# Altium footprint library ptitteam_pcb.PcbLib: 43 footprints (part 3 of 3)
Each footprint in its own frame and in the unit in brackets; x right, y up, seen from the top. Pads: shape width x height; smd on the part's side, far side on the other; paste and mask are expansions set on the pad; w line width, h text height; cw(c..) or ccw(c..) is an arc to the next point about the centre after c.
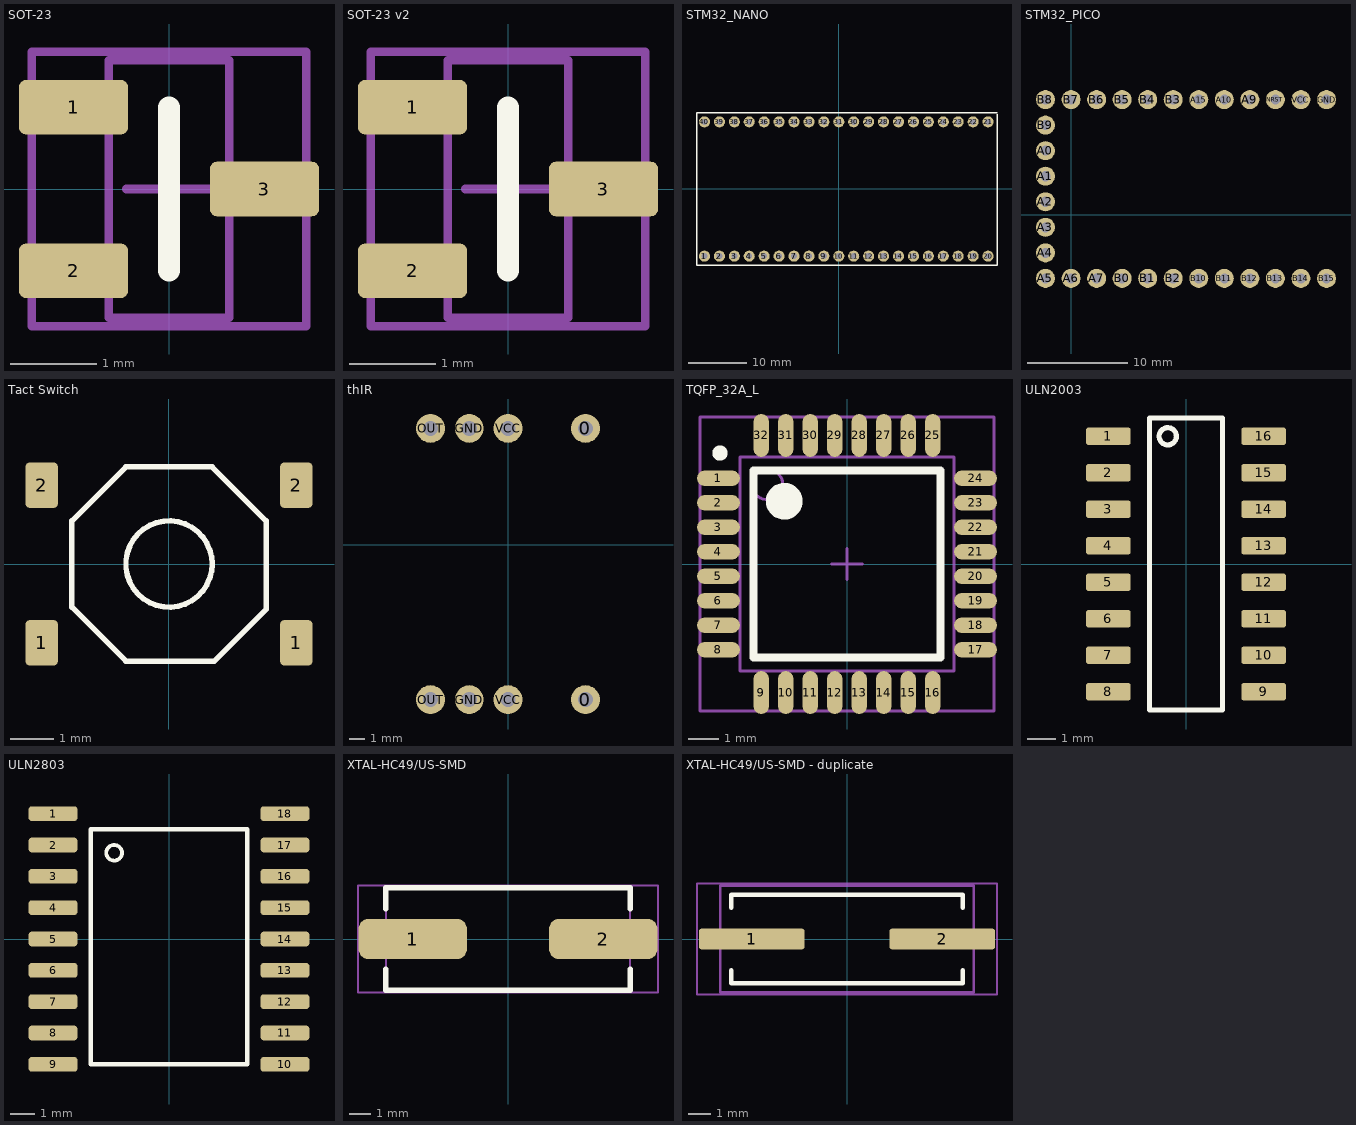
[diagram p2: the footprints below, top view; thin cyan lines are the x and y axes]

## SOT-23 [mil] "SOT23, 3-Leads, Body 2.9x1.3mm, Pitch 0.95mm, Lead Span 2.5mm, IPC High Density"
height 43.31
pads (3):
  rrect25% 50x25 smd: 1(-43.75,37.5) 2(-43.75,-37.5) 3(43.75,0)
Top Overlay:
  lines w10: 0,-37.5 0,37.5
Mechanical 13:
  lines w3.94: -27.56,-59.06 -27.56,59.06 27.56,59.06 27.56,-59.06 -27.56,-59.06
Mechanical 15:
  lines w3.94: -19.68,0 19.69,0 ; 0,-19.68 0,19.69 ; -62.99,-62.99 -62.99,62.99 62.99,62.99 62.99,-62.99 -62.99,-62.99
3D body: height 43.31, standoff 0, extent -27.56,-59.06 27.56,59.06

## SOT-23 v2 [mil]
pads (3):
  rrect25% 50x25 smd: 1(-43.75,37.5) 2(-43.75,-37.5) 3(43.75,0)
Top Overlay:
  lines w10: 0,-37.5 0,37.5
Mechanical 13:
  lines w3.94: -27.56,-59.05 27.56,-59.05 27.56,59.06 -27.56,59.06 -27.56,-59.05
Mechanical 15:
  lines w3.94: -19.68,0 19.69,0 ; 0,-19.68 0,19.69 ; -62.99,-62.99 63,-62.99 63,63 -62.99,63 -62.99,-62.99
3D body: height 43.31, standoff 0, extent -27.56,-59.05 27.56,59.06

## STM32_NANO [mm]
pads (40):
  round 1.886 hole 1: 1(-22.86,-11.43) 2(-20.32,-11.43) 3(-17.78,-11.43) 4(-15.24,-11.43) 5(-12.7,-11.43) 6(-10.16,-11.43) 7(-7.62,-11.43) 8(-5.08,-11.43) 9(-2.54,-11.43) 10(0,-11.43) 11(2.54,-11.43) 12(5.08,-11.43) 13(7.62,-11.43) 14(10.16,-11.43) 15(12.7,-11.43) 16(15.24,-11.43) 17(17.78,-11.43) 18(20.32,-11.43) 19(22.86,-11.43) 20(25.4,-11.43) 21(25.4,11.43) 22(22.86,11.43) 23(20.32,11.43) 24(17.78,11.43) 25(15.24,11.43) 26(12.7,11.43) 27(10.16,11.43) 28(7.62,11.43) 29(5.08,11.43) 30(2.54,11.43) 31(0,11.43) 32(-2.54,11.43) 33(-5.08,11.43) 34(-7.62,11.43) 35(-10.16,11.43) 36(-12.7,11.43) 37(-15.24,11.43) 38(-17.78,11.43) 39(-20.32,11.43) 40(-22.86,11.43)
Top Overlay:
  lines w0.254: 26.924,12.7 26.924,-12.954 -24.13,-12.954 -24.13,12.954 26.924,12.954
3D body: height 8.45, standoff 3.55, extent -32.35,-7.52 -21.21,7.52
3D body: height 8.5, standoff 6, extent -24.384,-12.954 26.924,12.954
3D body: height 9, standoff -2.2, extent -24.13,10.18 -11.53,12.68
3D body: height 9, standoff -2.2, extent -11.43,10.18 1.17,12.68
3D body: height 9, standoff -2.2, extent 1.27,10.18 13.87,12.68
3D body: height 9, standoff -2.2, extent 13.97,10.18 26.57,12.68
3D body: height 9, standoff -2.2, extent 13.97,-12.68 26.57,-10.18
3D body: height 9, standoff -2.2, extent 1.27,-12.68 13.87,-10.18
3D body: height 9, standoff -2.2, extent -11.43,-12.68 1.17,-10.18
3D body: height 9, standoff -2.2, extent -24.13,-12.68 -11.53,-10.18
3D body: height 9.75, standoff 8, extent -3.752,-4.514 5.276,4.514
3D body: height 12.3, standoff 8, extent -10.543,-6.4 -5.713,6.4
3D body: height 10, standoff 8, extent -15.82,-3.05 -12.12,3.05
3D body: height 10, standoff 8, extent -19.884,-3.05 -16.184,3.05
3D body: height 9.65, standoff 8, extent 7.926,-3.543 14.426,3.544
3D body: height 13.14, standoff 8.05, extent 17.216,-4.95 26.416,4.95
3D body: height 9.3, standoff 7.7, extent -10.956,-12.192 -9.364,-10.599
3D body: height 9.3, standoff 7.7, extent -23.021,-9.652 -21.429,-8.059
3D body: height 9.3, standoff 7.7, extent -23.021,-7.112 -21.429,-5.519
3D body: height 9.3, standoff 7.7, extent -23.021,-4.572 -21.429,-2.979
3D body: height 9.3, standoff 7.7, extent -23.021,-2.032 -21.429,-0.439
3D body: height 9.3, standoff 7.7, extent -23.021,0.508 -21.429,2.101
3D body: height 9.3, standoff 7.7, extent -23.021,3.048 -21.429,4.641
3D body: height 9.3, standoff 7.7, extent -23.021,8.128 -21.429,9.721
3D body: height 9.3, standoff 7.7, extent -23.021,5.588 -21.429,7.181
3D body: height 9.3, standoff 7.7, extent -23.656,10.668 -22.064,12.261
3D body: height 9.3, standoff 7.7, extent -21.116,10.668 -19.524,12.261
3D body: height 9.3, standoff 7.7, extent -18.576,10.668 -16.984,12.261
3D body: height 9.3, standoff 7.7, extent -16.036,10.668 -14.444,12.261
3D body: height 9.3, standoff 7.7, extent -13.496,10.668 -11.904,12.261
3D body: height 9.3, standoff 7.7, extent -10.956,10.668 -9.364,12.261
3D body: height 9.3, standoff 7.7, extent -8.416,10.668 -6.824,12.261
3D body: height 9.3, standoff 7.7, extent -5.876,10.668 -4.284,12.261
3D body: height 9.3, standoff 7.7, extent -3.336,10.668 -1.744,12.261
3D body: height 9.3, standoff 7.7, extent -0.796,10.668 0.796,12.261
3D body: height 9.3, standoff 7.7, extent 1.744,10.668 3.336,12.261
3D body: height 9.3, standoff 7.7, extent 4.284,10.668 5.876,12.261
3D body: height 9.3, standoff 7.7, extent 6.824,10.668 8.416,12.261
3D body: height 9.3, standoff 7.7, extent 9.364,10.668 10.956,12.261
3D body: height 9.3, standoff 7.7, extent 11.904,10.668 13.496,12.261
3D body: height 9.3, standoff 7.7, extent 14.444,10.668 16.036,12.261
3D body: height 9.3, standoff 7.7, extent 16.984,10.668 18.576,12.261
3D body: height 9.3, standoff 7.7, extent 19.524,10.668 21.116,12.261
3D body: height 9.3, standoff 7.7, extent 22.064,10.668 23.656,12.261
3D body: height 9.3, standoff 7.7, extent 24.604,10.668 26.196,12.261
3D body: height 9.3, standoff 7.7, extent 24.604,-12.192 26.196,-10.599
3D body: height 9.3, standoff 7.7, extent 22.064,-12.192 23.656,-10.599
3D body: height 9.3, standoff 7.7, extent 19.524,-12.192 21.116,-10.599
3D body: height 9.3, standoff 7.7, extent 16.984,-12.192 18.576,-10.599
3D body: height 9.3, standoff 7.7, extent 14.444,-12.192 16.036,-10.599
3D body: height 9.3, standoff 7.7, extent 11.904,-12.192 13.496,-10.599
3D body: height 9.3, standoff 7.7, extent 9.364,-12.192 10.956,-10.599
3D body: height 9.3, standoff 7.7, extent 6.824,-12.192 8.416,-10.599
3D body: height 9.3, standoff 7.7, extent 4.284,-12.192 5.876,-10.599
3D body: height 9.3, standoff 7.7, extent 1.744,-12.192 3.336,-10.599
3D body: height 9.3, standoff 7.7, extent -0.796,-12.192 0.796,-10.599
3D body: height 9.3, standoff 7.7, extent -3.336,-12.192 -1.744,-10.599
3D body: height 9.3, standoff 7.7, extent -5.876,-12.192 -4.284,-10.599
3D body: height 9.3, standoff 7.7, extent -8.416,-12.192 -6.824,-10.599
3D body: height 9.3, standoff 7.7, extent -13.496,-12.192 -11.904,-10.599
3D body: height 9.3, standoff 7.7, extent -16.036,-12.192 -14.444,-10.599
3D body: height 9.3, standoff 7.7, extent -18.576,-12.192 -16.984,-10.599
3D body: height 9.3, standoff 7.7, extent -21.116,-12.192 -19.524,-10.599
3D body: height 9.3, standoff 7.7, extent -23.656,-12.192 -22.064,-10.599
3D body: height 11.5, standoff 9.5, extent -14.57,-1.3 -13.37,1.3
3D body: height 11, standoff 7.5, extent -15.12,-2.15 -12.82,2.15
3D body: height 10, standoff 9.5, extent -14.316,-3.677 -13.716,-2.927
3D body: height 10, standoff 9.5, extent -14.27,2.927 -13.67,3.677
3D body: height 10, standoff 9.5, extent -18.334,2.927 -17.734,3.677
3D body: height 10, standoff 9.5, extent -18.38,-3.677 -17.78,-2.927
3D body: height 10.5, standoff 8.5, extent -19.184,-2.15 -16.884,2.15
3D body: height 11.5, standoff 9.5, extent -18.634,-1.3 -17.434,1.3

## STM32_PICO [mm]
pads (30):
  round 1.886 hole 1: A0(-2.54,6.35) A1(-2.54,3.81) A2(-2.54,1.27) A3(-2.54,-1.27) A4(-2.54,-3.81) A5(-2.54,-6.35) A6(0,-6.35) A7(2.54,-6.35) A9(17.78,11.43) A10(15.24,11.43) A15(12.7,11.43) B0(5.08,-6.35) B1(7.62,-6.35) B2(10.16,-6.35) B3(10.16,11.43) B4(7.62,11.43) B5(5.08,11.43) B6(2.54,11.43) B7(0,11.43) B8(-2.54,11.43) B9(-2.54,8.89) B10(12.7,-6.35) B11(15.24,-6.35) B12(17.78,-6.35) B13(20.32,-6.35) B14(22.86,-6.35) B15(25.4,-6.35) GND(25.4,11.43) NRST(20.32,11.43) VCC(22.86,11.43)
3D body: height 1.7, standoff -9.5, extent -3.79,-5.08 -1.29,10.06
3D body: height 12.3, standoff 8, extent -1.02,-3.86 3.81,8.94
3D body: height 8.5, standoff 6, extent -3.81,-7.62 26.67,12.7
3D body: height 9.75, standoff 8, extent 4.942,-1.974 13.97,7.054
3D body: height 13.14, standoff 8.05, extent 17.47,-2.41 26.67,7.49
3D body: height 1.7, standoff -9.5, extent -3.81,-7.6 11.33,-5.1
3D body: height 1.7, standoff -9.5, extent 11.48,-7.62 26.62,-5.12
3D body: height 1.7, standoff -9.5, extent 11.48,10.16 26.62,12.66
3D body: height 1.7, standoff -9.5, extent -3.76,10.16 11.38,12.66
3D body: height 9.3, standoff 7.7, extent -3.371,-4.606 -1.778,-3.014
3D body: height 9.3, standoff 7.7, extent -3.371,-2.066 -1.778,-0.474
3D body: height 9.3, standoff 7.7, extent -3.371,0.474 -1.778,2.066
3D body: height 9.3, standoff 7.7, extent -3.371,3.014 -1.778,4.606
3D body: height 9.3, standoff 7.7, extent -3.371,5.554 -1.778,7.146
3D body: height 9.3, standoff 7.7, extent -3.371,8.094 -1.778,9.686
3D body: height 9.3, standoff 7.7, extent -3.336,10.668 -1.744,12.261
3D body: height 9.3, standoff 7.7, extent -0.796,10.668 0.796,12.261
3D body: height 9.3, standoff 7.7, extent 1.744,10.668 3.336,12.261
3D body: height 9.3, standoff 7.7, extent 4.284,10.668 5.876,12.261
3D body: height 9.3, standoff 7.7, extent 6.824,10.668 8.416,12.261
3D body: height 9.3, standoff 7.7, extent 9.364,10.668 10.956,12.261
3D body: height 9.3, standoff 7.7, extent 11.904,10.668 13.496,12.261
3D body: height 9.3, standoff 7.7, extent 14.444,10.668 16.036,12.261
3D body: height 9.3, standoff 7.7, extent 16.984,10.668 18.576,12.261
3D body: height 9.3, standoff 7.7, extent 19.524,10.668 21.116,12.261
3D body: height 9.3, standoff 7.7, extent 22.064,10.668 23.656,12.261
3D body: height 9.3, standoff 7.7, extent 24.604,10.668 26.196,12.261
3D body: height 9.3, standoff 7.7, extent 24.604,-7.112 26.196,-5.519
3D body: height 9.3, standoff 7.7, extent 22.064,-7.112 23.656,-5.519
3D body: height 9.3, standoff 7.7, extent 19.524,-7.112 21.116,-5.519
3D body: height 9.3, standoff 7.7, extent 16.984,-7.112 18.576,-5.519
3D body: height 9.3, standoff 7.7, extent 14.444,-7.112 16.036,-5.519
3D body: height 9.3, standoff 7.7, extent 11.904,-7.112 13.496,-5.519
3D body: height 9.3, standoff 7.7, extent 9.364,-7.112 10.956,-5.519
3D body: height 9.3, standoff 7.7, extent 6.824,-7.112 8.416,-5.519
3D body: height 9.3, standoff 7.7, extent 4.284,-7.112 5.876,-5.519
3D body: height 9.3, standoff 7.7, extent 1.744,-7.112 3.336,-5.519
3D body: height 9.3, standoff 7.7, extent -0.796,-7.112 0.796,-5.519
3D body: height 9.3, standoff 7.7, extent -3.336,-7.112 -1.744,-5.519
3D body: height 8.62, standoff 7, extent 23.241,8.001 25.012,9.775
3D body: height 8.64, standoff 7, extent 23.622,8.382 24.634,9.396
3D body: height 8.62, standoff 7, extent 20.701,8.001 22.472,9.775
3D body: height 8.64, standoff 7, extent 21.082,8.382 22.094,9.396
3D body: height 8.62, standoff 7, extent 18.161,8.001 19.932,9.775
3D body: height 8.64, standoff 7, extent 18.542,8.382 19.554,9.396
3D body: height 8.62, standoff 7, extent 15.621,8.001 17.392,9.775
3D body: height 8.64, standoff 7, extent 16.002,8.382 17.014,9.396
3D body: height 8.62, standoff 7, extent 13.081,8.001 14.852,9.775
3D body: height 8.64, standoff 7, extent 13.462,8.382 14.474,9.396

## Tact Switch [mm] "Tact Switch waterproof Rohs 5.1x5.1x1.5m"
pads (4):
  rrect25% 0.75x1.05 smd: 1(-2.95,-1.825) 1(2.95,-1.825) 2(-2.95,1.825) 2(2.95,1.825)
Top Overlay:
  circle w0.127: c0,0 r1
  lines w0.127: -2.25,-1 -2.25,1 -1,2.25 1,2.25 2.25,1 2.25,-1.05 1.05,-2.25 -1,-2.25 -2.25,-1
3D body: height 1.5, standoff 0, extent -0.996,-1 0.996,0.996
3D body: height 1, standoff 0.6, extent -2,-2 2,2
3D body: height 0.7, standoff 0, extent -2.5,-2.5 2.5,2.5

## thIR [mm]
pads (8):
  round 1.886 hole 1: 0(5.08,-10.16) 0(5.08,7.62) GND(-2.54,-10.16) GND(-2.54,7.62) OUT(-5.08,-10.16) OUT(-5.08,7.62) VCC(0,-10.16) VCC(0,7.62)
3D body: height 13.5, standoff 10.5, extent -1.484,-3.399 1.5,-0.411
3D body: height 11.5, standoff 10.3, extent 1.651,-6.604 2.159,-4.953
3D body: height 11.5, standoff 10.3, extent -0.254,-6.604 0.254,-4.953
3D body: height 11.5, standoff 10.3, extent -2.159,-6.604 -1.651,-4.953
3D body: height 12.5, standoff 10.5, extent -2.413,-4.953 2.413,1.143
3D body: height 10.5, standoff 9.5, extent -2.54,-5.08 2.54,1.27
3D body: height 11.3, standoff 8.5, extent 1.409,-7.484 2.405,-6.486
3D body: height 11.3, standoff 8.5, extent -0.496,-7.484 0.5,-6.486
3D body: height 11.3, standoff 8.5, extent -2.401,-7.484 -1.405,-6.486
3D body: height 8.5, standoff 6, extent -6.35,-11.41 6.25,8.87
3D body: height 9, standoff -2.2, extent -6.35,-11.41 6.25,-8.91
3D body: height 9, standoff -2.2, extent -6.35,6.37 6.25,8.87
3D body: height 9.3, standoff 7.7, extent -5.876,-10.922 -4.284,-9.329
3D body: height 9.3, standoff 7.7, extent -3.336,-10.922 -1.744,-9.329
3D body: height 9.3, standoff 7.7, extent -0.796,-10.922 0.796,-9.329
3D body: height 9.3, standoff 7.7, extent 4.284,-10.922 5.876,-9.329
3D body: height 9.3, standoff 7.7, extent 1.744,-10.922 3.336,-9.329
3D body: height 9.3, standoff 7.7, extent 4.284,6.858 5.876,8.451
3D body: height 9.3, standoff 7.7, extent 1.744,6.858 3.336,8.451
3D body: height 9.3, standoff 7.7, extent -0.796,6.858 0.796,8.451
3D body: height 9.3, standoff 7.7, extent -3.336,6.858 -1.744,8.451
3D body: height 9.3, standoff 7.7, extent -5.876,6.858 -4.284,8.451

## TQFP_32A_L [mm] "Thin QFP, 32-Leads, Body 7x7mm, Pitch 0.8mm, IPC High Density"
height 1.2
pads (32):
  oval 1.4x0.5 smd: 1(-4.2,2.8) 2(-4.2,2) 3(-4.2,1.2) 4(-4.2,0.4) 5(-4.2,-0.4) 6(-4.2,-1.2) 7(-4.2,-2) 8(-4.2,-2.8) 17(4.2,-2.8) 18(4.2,-2) 19(4.2,-1.2) 20(4.2,-0.4) 21(4.2,0.4) 22(4.2,1.2) 23(4.2,2) 24(4.2,2.8)
  oval 0.5x1.4 smd: 9(-2.8,-4.2) 10(-2,-4.2) 11(-1.2,-4.2) 12(-0.4,-4.2) 13(0.4,-4.2) 14(1.2,-4.2) 15(2,-4.2) 16(2.8,-4.2) 25(2.8,4.2) 26(2,4.2) 27(1.2,4.2) 28(0.4,4.2) 29(-0.4,4.2) 30(-1.2,4.2) 31(-2,4.2) 32(-2.8,4.2)
Top Overlay:
  circle w0.25: c-4.15,3.625 r0.125
  circle w0.6: c-2.05,2.05 r0.3
  lines w0.254: -3.05,-3.05 -3.05,3.05 3.05,3.05 3.05,-3.05 -3.05,-3.05
Mechanical 1:
  lines w0.1: -3.5,-3.5 -3.5,3.5 3.5,3.5 3.5,-3.5 -3.5,-3.5
Mechanical 13:
  circle w0.1: c-2.6,2.6 r0.5
Mechanical 15:
  lines w0.1: -0.5,0 0.5,0 ; 0,-0.5 0,0.5 ; -4.8,-4.8 -4.8,4.8 4.8,4.8 4.8,-4.8 -4.8,-4.8
3D body: height 0.15, standoff 0, extent -0.575,3.925 -0.225,4.5
3D body: height 0.6, standoff 0.45, extent -0.575,3.5 -0.225,4.075
3D body: height 0.5, standoff 0, extent -0.575,3.925 -0.225,4.075
3D body: height 0.5, standoff 0, extent -1.375,3.925 -1.025,4.075
3D body: height 0.6, standoff 0.45, extent -1.375,3.5 -1.025,4.075
3D body: height 0.15, standoff 0, extent -1.375,3.925 -1.025,4.5
3D body: height 0.5, standoff 0, extent -2.175,3.925 -1.825,4.075
3D body: height 0.6, standoff 0.45, extent -2.175,3.5 -1.825,4.075
3D body: height 0.15, standoff 0, extent -2.175,3.925 -1.825,4.5
3D body: height 0.5, standoff 0, extent -2.975,3.925 -2.625,4.075
3D body: height 0.6, standoff 0.45, extent -2.975,3.5 -2.625,4.075
3D body: height 0.15, standoff 0, extent -2.975,3.925 -2.625,4.5
3D body: height 0.15, standoff 0, extent 2.625,3.925 2.975,4.5
3D body: height 0.6, standoff 0.45, extent 2.625,3.5 2.975,4.075
3D body: height 0.5, standoff 0, extent 2.625,3.925 2.975,4.075
3D body: height 0.5, standoff 0, extent 1.825,3.925 2.175,4.075
3D body: height 0.6, standoff 0.45, extent 1.825,3.5 2.175,4.075
3D body: height 0.15, standoff 0, extent 1.825,3.925 2.175,4.5
3D body: height 0.5, standoff 0, extent 1.025,3.925 1.375,4.075
3D body: height 0.6, standoff 0.45, extent 1.025,3.5 1.375,4.075
3D body: height 0.15, standoff 0, extent 1.025,3.925 1.375,4.5
3D body: height 0.5, standoff 0, extent 0.225,3.925 0.575,4.075
3D body: height 0.6, standoff 0.45, extent 0.225,3.5 0.575,4.075
3D body: height 0.15, standoff 0, extent 0.225,3.925 0.575,4.5
3D body: height 0.15, standoff 0, extent 3.925,0.225 4.5,0.575
3D body: height 0.6, standoff 0.45, extent 3.5,0.225 4.075,0.575
3D body: height 0.5, standoff 0, extent 3.925,0.225 4.075,0.575
3D body: height 0.5, standoff 0, extent 3.925,1.025 4.075,1.375
3D body: height 0.6, standoff 0.45, extent 3.5,1.025 4.075,1.375
3D body: height 0.15, standoff 0, extent 3.925,1.025 4.5,1.375
3D body: height 0.5, standoff 0, extent 3.925,1.825 4.075,2.175
3D body: height 0.6, standoff 0.45, extent 3.5,1.825 4.075,2.175
3D body: height 0.15, standoff 0, extent 3.925,1.825 4.5,2.175
3D body: height 0.5, standoff 0, extent 3.925,2.625 4.075,2.975
3D body: height 0.6, standoff 0.45, extent 3.5,2.625 4.075,2.975
3D body: height 0.15, standoff 0, extent 3.925,2.625 4.5,2.975
3D body: height 0.15, standoff 0, extent 3.925,-2.975 4.5,-2.625
3D body: height 0.6, standoff 0.45, extent 3.5,-2.975 4.075,-2.625
3D body: height 0.5, standoff 0, extent 3.925,-2.975 4.075,-2.625
3D body: height 0.5, standoff 0, extent 3.925,-2.175 4.075,-1.825
3D body: height 0.6, standoff 0.45, extent 3.5,-2.175 4.075,-1.825
3D body: height 0.15, standoff 0, extent 3.925,-2.175 4.5,-1.825
3D body: height 0.5, standoff 0, extent 3.925,-1.375 4.075,-1.025
3D body: height 0.6, standoff 0.45, extent 3.5,-1.375 4.075,-1.025
3D body: height 0.15, standoff 0, extent 3.925,-1.375 4.5,-1.025
3D body: height 0.5, standoff 0, extent 3.925,-0.575 4.075,-0.225
3D body: height 0.6, standoff 0.45, extent 3.5,-0.575 4.075,-0.225
3D body: height 0.15, standoff 0, extent 3.925,-0.575 4.5,-0.225
3D body: height 0.15, standoff 0, extent 0.225,-4.5 0.575,-3.925
3D body: height 0.6, standoff 0.45, extent 0.225,-4.075 0.575,-3.5
3D body: height 0.5, standoff 0, extent 0.225,-4.075 0.575,-3.925
3D body: height 0.5, standoff 0, extent 1.025,-4.075 1.375,-3.925
3D body: height 0.6, standoff 0.45, extent 1.025,-4.075 1.375,-3.5
3D body: height 0.15, standoff 0, extent 1.025,-4.5 1.375,-3.925
3D body: height 0.5, standoff 0, extent 1.825,-4.075 2.175,-3.925
3D body: height 0.6, standoff 0.45, extent 1.825,-4.075 2.175,-3.5
3D body: height 0.15, standoff 0, extent 1.825,-4.5 2.175,-3.925
3D body: height 0.5, standoff 0, extent 2.625,-4.075 2.975,-3.925
3D body: height 0.6, standoff 0.45, extent 2.625,-4.075 2.975,-3.5
3D body: height 0.15, standoff 0, extent 2.625,-4.5 2.975,-3.925
3D body: height 0.15, standoff 0, extent -2.975,-4.5 -2.625,-3.925
3D body: height 0.6, standoff 0.45, extent -2.975,-4.075 -2.625,-3.5
3D body: height 0.5, standoff 0, extent -2.975,-4.075 -2.625,-3.925
3D body: height 0.5, standoff 0, extent -2.175,-4.075 -1.825,-3.925
3D body: height 0.6, standoff 0.45, extent -2.175,-4.075 -1.825,-3.5
3D body: height 0.15, standoff 0, extent -2.175,-4.5 -1.825,-3.925
3D body: height 0.5, standoff 0, extent -1.375,-4.075 -1.025,-3.925
3D body: height 0.6, standoff 0.45, extent -1.375,-4.075 -1.025,-3.5
3D body: height 0.15, standoff 0, extent -1.375,-4.5 -1.025,-3.925
3D body: height 0.5, standoff 0, extent -0.575,-4.075 -0.225,-3.925
3D body: height 0.6, standoff 0.45, extent -0.575,-4.075 -0.225,-3.5
3D body: height 0.15, standoff 0, extent -0.575,-4.5 -0.225,-3.925
3D body: height 0.15, standoff 0, extent -4.5,-0.575 -3.925,-0.225
3D body: height 0.6, standoff 0.45, extent -4.075,-0.575 -3.5,-0.225
3D body: height 0.5, standoff 0, extent -4.075,-0.575 -3.925,-0.225
3D body: height 0.5, standoff 0, extent -4.075,-1.375 -3.925,-1.025
3D body: height 0.6, standoff 0.45, extent -4.075,-1.375 -3.5,-1.025
3D body: height 0.15, standoff 0, extent -4.5,-1.375 -3.925,-1.025
3D body: height 0.5, standoff 0, extent -4.075,-2.175 -3.925,-1.825
3D body: height 0.6, standoff 0.45, extent -4.075,-2.175 -3.5,-1.825
3D body: height 0.15, standoff 0, extent -4.5,-2.175 -3.925,-1.825
3D body: height 0.5, standoff 0, extent -4.075,-2.975 -3.925,-2.625
3D body: height 0.6, standoff 0.45, extent -4.075,-2.975 -3.5,-2.625
3D body: height 0.15, standoff 0, extent -4.5,-2.975 -3.925,-2.625
3D body: height 0.15, standoff 0, extent -4.5,0.225 -3.925,0.575
3D body: height 0.6, standoff 0.45, extent -4.075,0.225 -3.5,0.575
3D body: height 0.5, standoff 0, extent -4.075,0.225 -3.925,0.575
3D body: height 0.15, standoff 0, extent -4.5,1.025 -3.925,1.375
3D body: height 0.6, standoff 0.45, extent -4.075,1.025 -3.5,1.375
3D body: height 0.5, standoff 0, extent -4.075,1.025 -3.925,1.375
3D body: height 0.15, standoff 0, extent -4.5,1.825 -3.925,2.175
3D body: height 0.6, standoff 0.45, extent -4.075,1.825 -3.5,2.175
3D body: height 0.5, standoff 0, extent -4.075,1.825 -3.925,2.175
3D body: height 1.01, standoff 1, extent -3.5,-3.5 3.5,3.5
3D body: height 0.5, standoff 0, extent -4.075,2.625 -3.925,2.975
3D body: height 0.6, standoff 0.45, extent -4.075,2.625 -3.5,2.975
3D body: height 0.15, standoff 0, extent -4.5,2.625 -3.925,2.975
3D body: height 1, standoff 0.1, extent -3.5,-3.5 3.5,3.5

## ULN2003 [mm]
pads (16):
  rrect25% 1.55x0.6 smd: 1(-2.7,4.445) 2(-2.7,3.175) 3(-2.7,1.905) 4(-2.7,0.635) 5(-2.7,-0.635) 6(-2.7,-1.905) 7(-2.7,-3.175) 8(-2.7,-4.445) 9(2.7,-4.445) 10(2.7,-3.175) 11(2.7,-1.905) 12(2.7,-0.635) 13(2.7,0.635) 14(2.7,1.905) 15(2.7,3.175) 16(2.7,4.445)
Top Overlay:
  circle w0.178: c-0.635,4.445 r0.3
  lines w0.178: -1.27,-5.08 -1.27,5.08 1.27,5.08 1.27,-5.08 -1.27,-5.08

## ULN2803 [mm]
pads (18):
  rrect50% 2x0.6 smd: 1(-4.7,5.08) 2(-4.7,3.81) 3(-4.7,2.54) 4(-4.7,1.27) 5(-4.7,0) 6(-4.7,-1.27) 7(-4.7,-2.54) 8(-4.7,-3.81) 9(-4.7,-5.08) 10(4.7,-5.08) 11(4.7,-3.81) 12(4.7,-2.54) 13(4.7,-1.27) 14(4.7,0) 15(4.7,1.27) 16(4.7,2.54) 17(4.7,3.81) 18(4.7,5.08)
Top Overlay:
  circle w0.152: c-2.222,3.492 r0.318
  lines w0.178: -3.175,-5.08 3.175,-5.08 3.175,4.445 -3.175,4.445 -3.175,-5.08

## XTAL-HC49/US-SMD [mm] "SMD Crystal HC49/US (11.40 x 4.80)"
height 4.3
pads (2):
  rrect50% 5.061x1.886 smd: 1(-4.445,0) 2(4.445,0)
Top Overlay:
  lines w0.254: -5.7,-1.4 -5.7,-2.4 5.7,-2.4 5.7,-1.4 ; -5.7,1.4 -5.7,2.4 5.7,2.4 5.7,1.4
Mechanical 1:
  lines w0.1: -5.7,-2.4 -5.7,2.4 5.7,2.4 5.7,-2.4 -5.7,-2.4
Mechanical 15:
  lines w0.1: -7,-2.5 -7,2.5 7,2.5 7,-2.5 -7,-2.5
3D body: height 0.25, standoff 0, extent -6.6,-0.3 -2.2,0.3
3D body: height 0.25, standoff 0, extent 2.2,-0.3 6.6,0.3
3D body: height 4.3, standoff 0.1, extent -3.257,-1.9 3.257,1.9
3D body: height 1.25, standoff 0.1, extent -3.258,-2.15 3.258,2.15
3D body: height 0.75, standoff 0.01, extent -5.7,-2.4 5.7,2.4

## XTAL-HC49/US-SMD - duplicate [mm] "SMD Crystal HC49/US (11.40 x 4.80)"
height 4.3
pads (2):
  rrect25% 4.744x0.934 smd: 1(-4.286,0) 2(4.286,0)
Top Overlay:
  lines w0.2: -5.2,-1.4 -5.2,-2 5.2,-2 5.2,-1.4 ; -5.2,1.4 -5.2,2 5.2,2 5.2,1.4
Mechanical 1:
  lines w0.1: -5.7,-2.4 -5.7,2.4 5.7,2.4 5.7,-2.4 -5.7,-2.4
Mechanical 15:
  lines w0.1: -6.75,-2.5 -6.75,2.5 6.75,2.5 6.75,-2.5 -6.75,-2.5
3D body: height 0.25, standoff 0, extent -6.6,-0.3 -2.2,0.3
3D body: height 0.25, standoff 0, extent 2.2,-0.3 6.6,0.3
3D body: height 4.3, standoff 0.1, extent -5.15,-1.9 -1.365,1.893
3D body: height 4.3, standoff 0.1, extent 1.365,-1.893 5.15,1.9
3D body: height 4.3, standoff 0.1, extent -3.257,-1.9 3.257,1.9
3D body: height 1.25, standoff 0.1, extent -5.4,-2.15 -1.117,2.142
3D body: height 1.25, standoff 0.1, extent 1.117,-2.142 5.4,2.15
3D body: height 1.25, standoff 0.1, extent -3.258,-2.15 3.258,2.15
3D body: height 0.75, standoff 0.01, extent -5.7,-2.4 5.7,2.4